# Altium footprint library con-phoenix-508.PCBLIB: 90 footprints (part 4 of 6)
Each footprint in its own frame and in the unit in brackets; x right, y up, seen from the top. Pads: shape width x height; smd on the part's side, far side on the other; paste and mask are expansions set on the pad; w line width, h text height; cw(c..) or ccw(c..) is an arc to the next point about the centre after c.
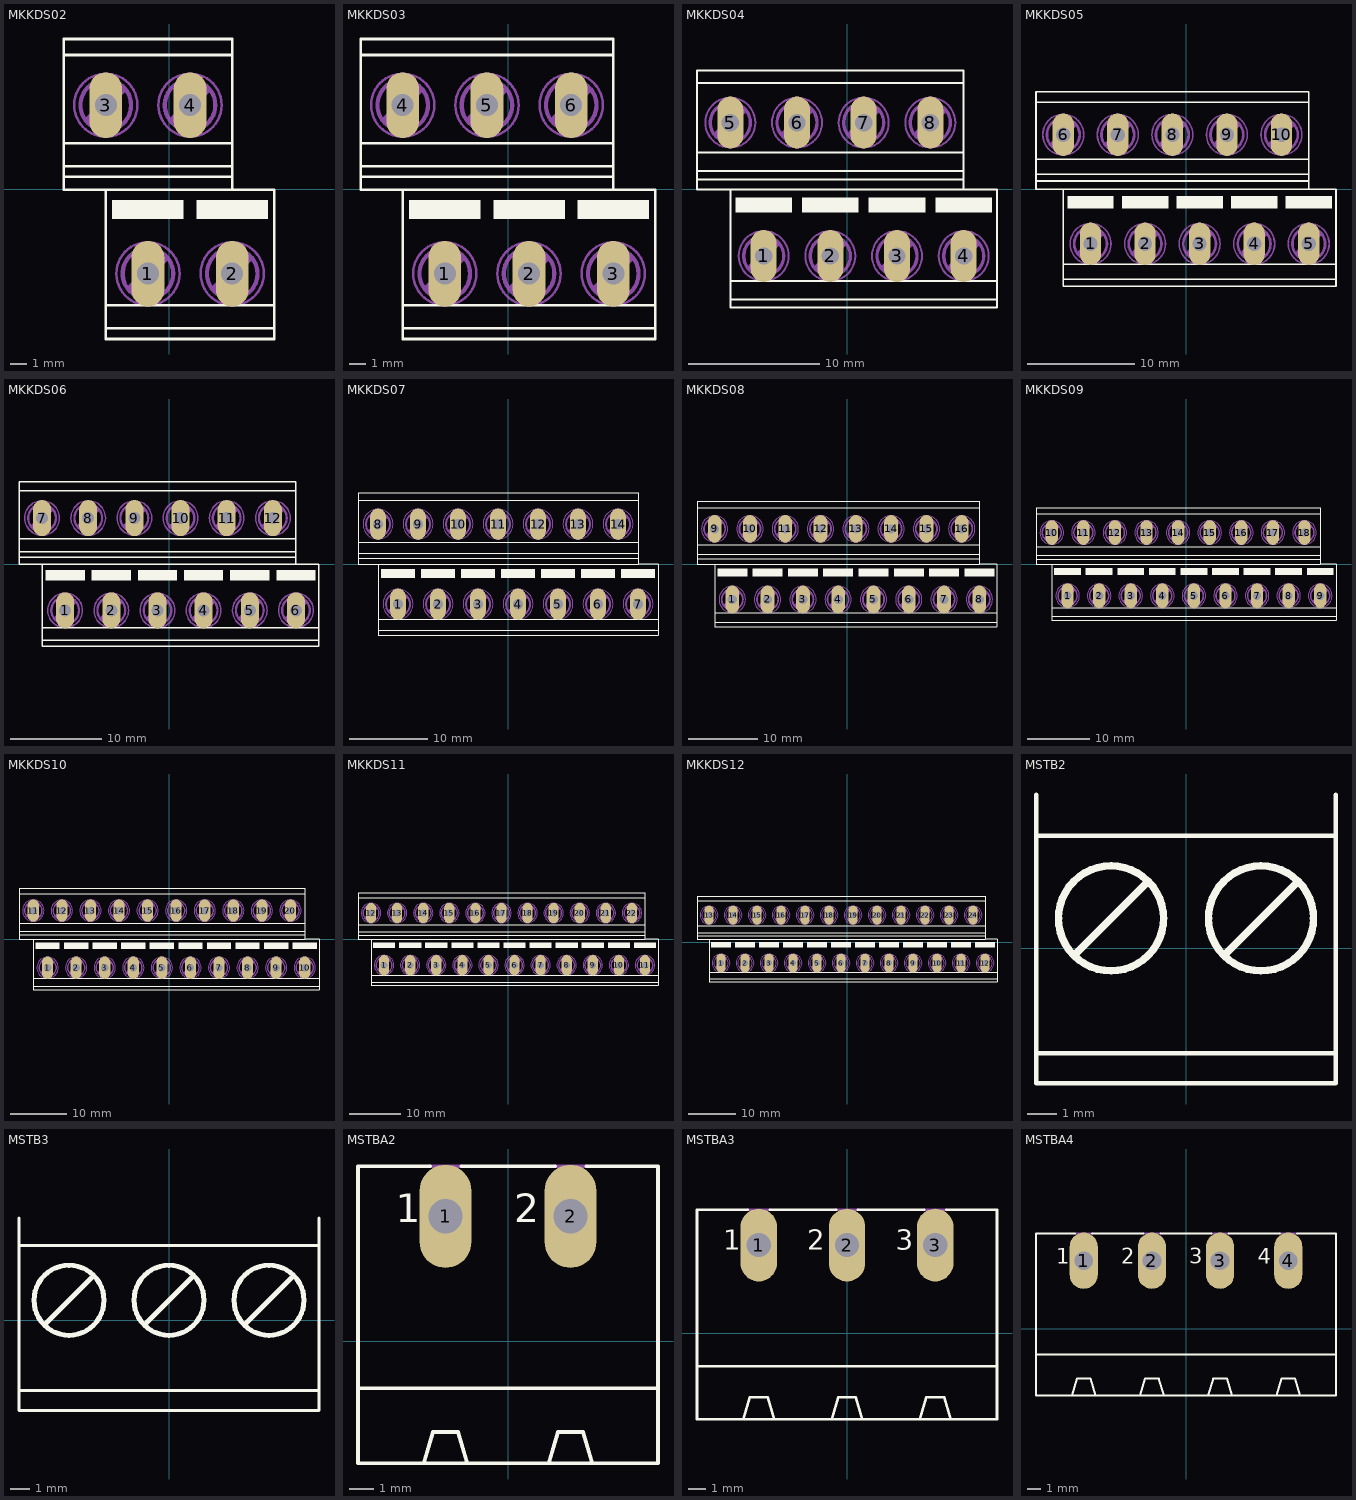
[diagram p3: the footprints below, top view; thin cyan lines are the x and y axes]

## MKKDS02 [mil]
pads (4):
  oval 78x156 hole 52: 1(-50,-200) 2(150,-200) 3(-150,200) 4(50,200)
Top Overlay:
  rectangle: 65,-70 235,-25
  rectangle: -135,-70 35,-25
  lines w6: -250,30 150,30 ; -250,30 -250,-0.63 -150,-0.63 ; -250,30 -250,55 ; -250,55 150,55 ; -250,55 -250,110 ; -250,110 150,110 ; -250,110 -250,319 ; -250,319 -250,357 150,357 150,319 ; -250,319 150,319 ; -150,-330.2 -150,-355.2 250,-355.2 250,-330.2 ; -150,-330.2 250,-330.2 ; -150,-330.2 -150,-275.2 ; -150,-275.2 250,-275.2 ; -150,-275.2 -150,-0.63 ; -150,-0.63 150,-0.63 ; 150,-0.63 250,-0.63 250,-275.2 ; 150,-0.63 150,30 ; 150,30 150,55 ; 150,55 150,110 ; 150,110 150,319 ; 250,-330.2 250,-275.2
Courtyard Bottom:
  circle w10: c-50,-200 r60
  circle w6: c-50,-200 r75
  circle w10: c150,-200 r60
  circle w6: c150,-200 r75
  circle w10: c-150,200 r60
  circle w6: c-150,200 r75
  circle w10: c50,200 r60
  circle w6: c50,200 r75
  lines w24: -187,164 -114,237 ; -87,-236 -14,-163 ; 13,164 86,237 ; 113,-236 186,-163
  text "1" at 0,-130 h62
  text "2" at 195,-130 h62
  text "3" at -115,276 h62
  text "4" at 82,276 h62

## MKKDS03 [mil]
pads (6):
  oval 78x156 hole 52: 1(-150,-200) 2(50,-200) 3(250,-200) 4(-250,200) 5(-50,200) 6(150,200)
Top Overlay:
  rectangle: -35,-70 135,-25
  rectangle: -235,-70 -65,-25
  rectangle: 165,-70 335,-25
  lines w6: -350,30 250,30 ; -350,30 -350,-0.63 -250,-0.63 ; -350,30 -350,55 ; -350,55 250,55 ; -350,55 -350,110 ; -350,110 250,110 ; -350,110 -350,319 ; -350,319 -350,357 250,357 250,319 ; -350,319 250,319 ; -250,-330.2 -250,-355.2 350,-355.2 350,-330.2 ; -250,-330.2 350,-330.2 ; -250,-330.2 -250,-275.2 ; -250,-275.2 350,-275.2 ; -250,-275.2 -250,-0.63 ; -250,-0.63 250,-0.63 ; 250,-0.63 350,-0.63 350,-275.2 ; 250,-0.63 250,30 ; 250,30 250,55 ; 250,55 250,110 ; 250,110 250,319 ; 350,-330.2 350,-275.2
Courtyard Bottom:
  circle w10: c-150,-200 r60
  circle w6: c-150,-200 r75
  circle w10: c50,-200 r60
  circle w6: c50,-200 r75
  circle w10: c-250,200 r60
  circle w6: c-250,200 r75
  circle w10: c-50,200 r60
  circle w6: c-50,200 r75
  circle w6: c150,200 r75
  circle w10: c150,200 r60
  circle w6: c250,-200 r75
  circle w10: c250,-200 r60
  lines w24: -287,164 -214,237 ; -187,-236 -114,-163 ; -87,164 -14,237 ; 13,-236 86,-163 ; 113,164 186,237 ; 213,-236 286,-163
  text "1" at -100,-130 h62
  text "2" at 95,-130 h62
  text "4" at -215,276 h62
  text "5" at -18.94,276 h62
  text "3" at 295,-130 h62
  text "6" at 182,276 h62

## MKKDS04 [mil]
pads (8):
  oval 78x156 hole 52: 1(-250,-200) 2(-50,-200) 3(150,-200) 4(350,-200) 5(-350,200) 6(-150,200) 7(50,200) 8(250,200)
Top Overlay:
  rectangle: -135,-70 35,-25
  rectangle: -335,-70 -165,-25
  rectangle: 265,-70 435,-25
  rectangle: 65,-70 235,-25
  lines w6: -450,30 350,30 ; -450,30 -450,-0.63 -350,-0.63 ; -450,30 -450,55 ; -450,55 350,55 ; -450,55 -450,110 ; -450,110 350,110 ; -450,110 -450,319 ; -450,319 -450,357 350,357 350,319 ; -450,319 350,319 ; -350,-330.2 -350,-355.2 450,-355.2 450,-330.2 ; -350,-330.2 450,-330.2 ; -350,-330.2 -350,-275.2 ; -350,-275.2 450,-275.2 ; -350,-275.2 -350,-0.63 ; -350,-0.63 350,-0.63 ; 350,-0.63 450,-0.63 450,-275.2 ; 350,-0.63 350,30 ; 350,30 350,55 ; 350,55 350,110 ; 350,110 350,319 ; 450,-330.2 450,-275.2
Courtyard Bottom:
  circle w10: c-250,-200 r60
  circle w6: c-250,-200 r75
  circle w10: c-50,-200 r60
  circle w6: c-50,-200 r75
  circle w10: c-350,200 r60
  circle w6: c-350,200 r75
  circle w10: c-150,200 r60
  circle w6: c-150,200 r75
  circle w6: c250,200 r75
  circle w10: c250,200 r60
  circle w6: c350,-200 r75
  circle w10: c350,-200 r60
  circle w10: c150,-200 r60
  circle w6: c150,-200 r75
  circle w10: c50,200 r60
  circle w6: c50,200 r75
  lines w24: -387,164 -314,237 ; -287,-236 -214,-163 ; -187,164 -114,237 ; -87,-236 -14,-163 ; 13,164 86,237 ; 113,-236 186,-163 ; 213,164 286,237 ; 313,-236 386,-163
  text "1" at -200,-130 h62
  text "2" at -5,-130 h62
  text "5" at -315,276 h62
  text "6" at -118.94,276 h62
  text "4" at 395,-130 h62
  text "8" at 282,276 h62
  text "3" at 195,-130 h62
  text "7" at 82,276 h62

## MKKDS05 [mil]
pads (10):
  oval 78x156 hole 52: 1(-350,-200) 2(-150,-200) 3(50,-200) 4(250,-200) 5(450,-200) 6(-450,200) 7(-250,200) 8(-50,200) 9(150,200) 10(350,200)
Top Overlay:
  rectangle: -235,-70 -65,-25
  rectangle: -435,-70 -265,-25
  rectangle: 365,-70 535,-25
  rectangle: -35,-70 135,-25
  rectangle: 165,-70 335,-25
  lines w6: -550,30 450,30 ; -550,30 -550,-0.63 -450,-0.63 ; -550,30 -550,55 ; -550,55 450,55 ; -550,55 -550,110 ; -550,110 450,110 ; -550,110 -550,319 ; -550,319 -550,357 450,357 450,319 ; -550,319 450,319 ; -450,-330.2 -450,-355.2 550,-355.2 550,-330.2 ; -450,-330.2 550,-330.2 ; -450,-330.2 -450,-275.2 ; -450,-275.2 550,-275.2 ; -450,-275.2 -450,-0.63 ; -450,-0.63 450,-0.63 ; 450,-0.63 550,-0.63 550,-275.2 ; 450,-0.63 450,30 ; 450,30 450,55 ; 450,55 450,110 ; 450,110 450,319 ; 550,-330.2 550,-275.2
Courtyard Bottom:
  circle w10: c-350,-200 r60
  circle w6: c-350,-200 r75
  circle w10: c-150,-200 r60
  circle w6: c-150,-200 r75
  circle w10: c-450,200 r60
  circle w6: c-450,200 r75
  circle w10: c-250,200 r60
  circle w6: c-250,200 r75
  circle w6: c350,200 r75
  circle w10: c350,200 r60
  circle w6: c450,-200 r75
  circle w10: c450,-200 r60
  circle w10: c50,-200 r60
  circle w6: c50,-200 r75
  circle w10: c-50,200 r60
  circle w6: c-50,200 r75
  circle w10: c250,-200 r60
  circle w6: c250,-200 r75
  circle w10: c150,200 r60
  circle w6: c150,200 r75
  lines w24: -487,164 -414,237 ; -387,-236 -314,-163 ; -287,164 -214,237 ; -187,-236 -114,-163 ; -87,164 -14,237 ; 13,-236 86,-163 ; 113,164 186,237 ; 213,-236 286,-163 ; 313,164 386,237 ; 413,-236 486,-163
  text "1" at -300,-130 h62
  text "2" at -105,-130 h62
  text "6" at -415,276 h62
  text "7" at -218.94,276 h62
  text "5" at 495,-130 h62
  text "10" at 382,276 h62
  text "3" at 95,-130 h62
  text "8" at -18.94,276 h62
  text "4" at 295,-130 h62
  text "9" at 182,276 h62

## MKKDS06 [mil]
pads (12):
  oval 78x156 hole 52: 1(-450,-200) 2(-250,-200) 3(-50,-200) 4(150,-200) 5(350,-200) 6(550,-200) 7(-550,200) 8(-350,200) 9(-150,200) 10(50,200) 11(250,200) 12(450,200)
Top Overlay:
  rectangle: -335,-70 -165,-25
  rectangle: -535,-70 -365,-25
  rectangle: 465,-70 635,-25
  rectangle: -135,-70 35,-25
  rectangle: 65,-70 235,-25
  rectangle: 265,-70 435,-25
  lines w6: -650,30 550,30 ; -650,30 -650,-0.63 -550,-0.63 ; -650,30 -650,55 ; -650,55 550,55 ; -650,55 -650,110 ; -650,110 550,110 ; -650,110 -650,319 ; -650,319 -650,357 550,357 550,319 ; -650,319 550,319 ; -550,-330.2 -550,-355.2 650,-355.2 650,-330.2 ; -550,-330.2 650,-330.2 ; -550,-330.2 -550,-275.2 ; -550,-275.2 650,-275.2 ; -550,-275.2 -550,-0.63 ; -550,-0.63 550,-0.63 ; 550,-0.63 650,-0.63 650,-275.2 ; 550,-0.63 550,30 ; 550,30 550,55 ; 550,55 550,110 ; 550,110 550,319 ; 650,-330.2 650,-275.2
Courtyard Bottom:
  circle w10: c-450,-200 r60
  circle w6: c-450,-200 r75
  circle w10: c-250,-200 r60
  circle w6: c-250,-200 r75
  circle w10: c-550,200 r60
  circle w6: c-550,200 r75
  circle w10: c-350,200 r60
  circle w6: c-350,200 r75
  circle w6: c450,200 r75
  circle w10: c450,200 r60
  circle w6: c550,-200 r75
  circle w10: c550,-200 r60
  circle w10: c-50,-200 r60
  circle w6: c-50,-200 r75
  circle w10: c-150,200 r60
  circle w6: c-150,200 r75
  circle w10: c150,-200 r60
  circle w6: c150,-200 r75
  circle w10: c50,200 r60
  circle w6: c50,200 r75
  circle w10: c350,-200 r60
  circle w6: c350,-200 r75
  circle w10: c250,200 r60
  circle w6: c250,200 r75
  lines w24: -587,164 -514,237 ; -487,-236 -414,-163 ; -387,164 -314,237 ; -287,-236 -214,-163 ; -187,164 -114,237 ; -87,-236 -14,-163 ; 13,164 86,237 ; 113,-236 186,-163 ; 213,164 286,237 ; 313,-236 386,-163 ; 413,164 486,237 ; 513,-236 586,-163
  text "1" at -400,-130 h62
  text "2" at -205,-130 h62
  text "7" at -515,276 h62
  text "8" at -318.94,276 h62
  text "6" at 595,-130 h62
  text "12" at 482,276 h62
  text "3" at -5,-130 h62
  text "9" at -118.94,276 h62
  text "4" at 195,-130 h62
  text "10" at 82,276 h62
  text "5" at 395,-130 h62
  text "11" at 282,276 h62

## MKKDS07 [mil]
pads (14):
  oval 78x156 hole 52: 1(-550,-200) 2(-350,-200) 3(-150,-200) 4(50,-200) 5(250,-200) 6(450,-200) 7(650,-200) 8(-650,200) 9(-450,200) 10(-250,200) 11(-50,200) 12(150,200) 13(350,200) 14(550,200)
Top Overlay:
  rectangle: -435,-70 -265,-25
  rectangle: -635,-70 -465,-25
  rectangle: 565,-70 735,-25
  rectangle: -235,-70 -65,-25
  rectangle: -35,-70 135,-25
  rectangle: 165,-70 335,-25
  rectangle: 365,-70 535,-25
  lines w6: -750,30 650,30 ; -750,30 -750,-0.63 -650,-0.63 ; -750,30 -750,55 ; -750,55 650,55 ; -750,55 -750,110 ; -750,110 650,110 ; -750,110 -750,319 ; -750,319 -750,357 650,357 650,319 ; -750,319 650,319 ; -650,-330.2 -650,-355.2 750,-355.2 750,-330.2 ; -650,-330.2 750,-330.2 ; -650,-330.2 -650,-275.2 ; -650,-275.2 750,-275.2 ; -650,-275.2 -650,-0.63 ; -650,-0.63 650,-0.63 ; 650,-0.63 750,-0.63 750,-275.2 ; 650,-0.63 650,30 ; 650,30 650,55 ; 650,55 650,110 ; 650,110 650,319 ; 750,-330.2 750,-275.2
Courtyard Bottom:
  circle w10: c-550,-200 r60
  circle w6: c-550,-200 r75
  circle w10: c-350,-200 r60
  circle w6: c-350,-200 r75
  circle w10: c-650,200 r60
  circle w6: c-650,200 r75
  circle w10: c-450,200 r60
  circle w6: c-450,200 r75
  circle w6: c550,200 r75
  circle w10: c550,200 r60
  circle w6: c650,-200 r75
  circle w10: c650,-200 r60
  circle w10: c-150,-200 r60
  circle w6: c-150,-200 r75
  circle w10: c-250,200 r60
  circle w6: c-250,200 r75
  circle w10: c50,-200 r60
  circle w6: c50,-200 r75
  circle w10: c-50,200 r60
  circle w6: c-50,200 r75
  circle w10: c250,-200 r60
  circle w6: c250,-200 r75
  circle w10: c150,200 r60
  circle w6: c150,200 r75
  circle w10: c450,-200 r60
  circle w6: c450,-200 r75
  circle w10: c350,200 r60
  circle w6: c350,200 r75
  lines w24: -687,164 -614,237 ; -587,-236 -514,-163 ; -487,164 -414,237 ; -387,-236 -314,-163 ; -287,164 -214,237 ; -187,-236 -114,-163 ; -87,164 -14,237 ; 13,-236 86,-163 ; 113,164 186,237 ; 213,-236 286,-163 ; 313,164 386,237 ; 413,-236 486,-163 ; 513,164 586,237 ; 613,-236 686,-163
  text "1" at -500,-130 h62
  text "2" at -305,-130 h62
  text "8" at -615,276 h62
  text "9" at -418.94,276 h62
  text "7" at 695,-130 h62
  text "14" at 582,276 h62
  text "3" at -105,-130 h62
  text "10" at -218.94,276 h62
  text "4" at 95,-130 h62
  text "11" at -18.94,276 h62
  text "5" at 295,-130 h62
  text "12" at 182,276 h62
  text "6" at 495,-130 h62
  text "13" at 382,276 h62

## MKKDS08 [mil]
pads (16):
  oval 78x156 hole 52: 1(-650,-200) 2(-450,-200) 3(-250,-200) 4(-50,-200) 5(150,-200) 6(350,-200) 7(550,-200) 8(750,-200) 9(-750,200) 10(-550,200) 11(-350,200) 12(-150,200) 13(50,200) 14(250,200) 15(450,200) 16(650,200)
Top Overlay:
  rectangle: -535,-70 -365,-25
  rectangle: -735,-70 -565,-25
  rectangle: 665,-70 835,-25
  rectangle: -335,-70 -165,-25
  rectangle: -135,-70 35,-25
  rectangle: 65,-70 235,-25
  rectangle: 265,-70 435,-25
  rectangle: 465,-70 635,-25
  lines w6: -850,30 750,30 ; -850,30 -850,-0.63 -750,-0.63 ; -850,30 -850,55 ; -850,55 750,55 ; -850,55 -850,110 ; -850,110 750,110 ; -850,110 -850,319 ; -850,319 -850,357 750,357 750,319 ; -850,319 750,319 ; -750,-330.2 -750,-355.2 850,-355.2 850,-330.2 ; -750,-330.2 850,-330.2 ; -750,-330.2 -750,-275.2 ; -750,-275.2 850,-275.2 ; -750,-275.2 -750,-0.63 ; -750,-0.63 750,-0.63 ; 750,-0.63 850,-0.63 850,-275.2 ; 750,-0.63 750,30 ; 750,30 750,55 ; 750,55 750,110 ; 750,110 750,319 ; 850,-330.2 850,-275.2
Courtyard Bottom:
  circle w10: c-650,-200 r60
  circle w6: c-650,-200 r75
  circle w10: c-450,-200 r60
  circle w6: c-450,-200 r75
  circle w10: c-750,200 r60
  circle w6: c-750,200 r75
  circle w10: c-550,200 r60
  circle w6: c-550,200 r75
  circle w6: c650,200 r75
  circle w10: c650,200 r60
  circle w6: c750,-200 r75
  circle w10: c750,-200 r60
  circle w10: c-250,-200 r60
  circle w6: c-250,-200 r75
  circle w10: c-350,200 r60
  circle w6: c-350,200 r75
  circle w10: c-50,-200 r60
  circle w6: c-50,-200 r75
  circle w10: c-150,200 r60
  circle w6: c-150,200 r75
  circle w10: c150,-200 r60
  circle w6: c150,-200 r75
  circle w10: c50,200 r60
  circle w6: c50,200 r75
  circle w10: c350,-200 r60
  circle w6: c350,-200 r75
  circle w10: c250,200 r60
  circle w6: c250,200 r75
  circle w10: c550,-200 r60
  circle w6: c550,-200 r75
  circle w10: c450,200 r60
  circle w6: c450,200 r75
  lines w24: -787,164 -714,237 ; -687,-236 -614,-163 ; -587,164 -514,237 ; -487,-236 -414,-163 ; -387,164 -314,237 ; -287,-236 -214,-163 ; -187,164 -114,237 ; -87,-236 -14,-163 ; 13,164 86,237 ; 113,-236 186,-163 ; 213,164 286,237 ; 313,-236 386,-163 ; 413,164 486,237 ; 513,-236 586,-163 ; 613,164 686,237 ; 713,-236 786,-163
  text "1" at -600,-130 h62
  text "2" at -405,-130 h62
  text "9" at -715,276 h62
  text "10" at -518.94,276 h62
  text "8" at 795,-130 h62
  text "16" at 682,276 h62
  text "3" at -205,-130 h62
  text "11" at -318.94,276 h62
  text "4" at -5,-130 h62
  text "12" at -118.94,276 h62
  text "5" at 195,-130 h62
  text "13" at 82,276 h62
  text "6" at 395,-130 h62
  text "14" at 282,276 h62
  text "7" at 595,-130 h62
  text "15" at 482,276 h62

## MKKDS09 [mil]
pads (18):
  oval 78x156 hole 52: 1(-750,-200) 2(-550,-200) 3(-350,-200) 4(-150,-200) 5(50,-200) 6(250,-200) 7(450,-200) 8(650,-200) 9(850,-200) 10(-850,200) 11(-650,200) 12(-450,200) 13(-250,200) 14(-50,200) 15(150,200) 16(350,200) 17(550,200) 18(750,200)
Top Overlay:
  rectangle: -635,-70 -465,-25
  rectangle: -835,-70 -665,-25
  rectangle: 765,-70 935,-25
  rectangle: -435,-70 -265,-25
  rectangle: -235,-70 -65,-25
  rectangle: -35,-70 135,-25
  rectangle: 165,-70 335,-25
  rectangle: 365,-70 535,-25
  rectangle: 565,-70 735,-25
  lines w6: -950,30 850,30 ; -950,30 -950,-0.63 -850,-0.63 ; -950,30 -950,55 ; -950,55 850,55 ; -950,55 -950,110 ; -950,110 850,110 ; -950,110 -950,319 ; -950,319 -950,357 850,357 850,319 ; -950,319 850,319 ; -850,-330.2 -850,-355.2 950,-355.2 950,-330.2 ; -850,-330.2 950,-330.2 ; -850,-330.2 -850,-275.2 ; -850,-275.2 950,-275.2 ; -850,-275.2 -850,-0.63 ; -850,-0.63 850,-0.63 ; 850,-0.63 950,-0.63 950,-275.2 ; 850,-0.63 850,30 ; 850,30 850,55 ; 850,55 850,110 ; 850,110 850,319 ; 950,-330.2 950,-275.2
Courtyard Bottom:
  circle w10: c-750,-200 r60
  circle w6: c-750,-200 r75
  circle w10: c-550,-200 r60
  circle w6: c-550,-200 r75
  circle w10: c-850,200 r60
  circle w6: c-850,200 r75
  circle w10: c-650,200 r60
  circle w6: c-650,200 r75
  circle w6: c750,200 r75
  circle w10: c750,200 r60
  circle w6: c850,-200 r75
  circle w10: c850,-200 r60
  circle w10: c-350,-200 r60
  circle w6: c-350,-200 r75
  circle w10: c-450,200 r60
  circle w6: c-450,200 r75
  circle w10: c-150,-200 r60
  circle w6: c-150,-200 r75
  circle w10: c-250,200 r60
  circle w6: c-250,200 r75
  circle w10: c50,-200 r60
  circle w6: c50,-200 r75
  circle w10: c-50,200 r60
  circle w6: c-50,200 r75
  circle w10: c250,-200 r60
  circle w6: c250,-200 r75
  circle w10: c150,200 r60
  circle w6: c150,200 r75
  circle w10: c450,-200 r60
  circle w6: c450,-200 r75
  circle w10: c350,200 r60
  circle w6: c350,200 r75
  circle w10: c650,-200 r60
  circle w6: c650,-200 r75
  circle w10: c550,200 r60
  circle w6: c550,200 r75
  lines w24: -887,164 -814,237 ; -787,-236 -714,-163 ; -687,164 -614,237 ; -587,-236 -514,-163 ; -487,164 -414,237 ; -387,-236 -314,-163 ; -287,164 -214,237 ; -187,-236 -114,-163 ; -87,164 -14,237 ; 13,-236 86,-163 ; 113,164 186,237 ; 213,-236 286,-163 ; 313,164 386,237 ; 413,-236 486,-163 ; 513,164 586,237 ; 613,-236 686,-163 ; 713,164 786,237 ; 813,-236 886,-163
  text "1" at -700,-130 h62
  text "2" at -505,-130 h62
  text "10" at -815,276 h62
  text "11" at -618.94,276 h62
  text "9" at 895,-130 h62
  text "18" at 782,276 h62
  text "3" at -305,-130 h62
  text "12" at -418.94,276 h62
  text "4" at -105,-130 h62
  text "13" at -218.94,276 h62
  text "5" at 95,-130 h62
  text "14" at -18.94,276 h62
  text "6" at 295,-130 h62
  text "15" at 182,276 h62
  text "7" at 495,-130 h62
  text "16" at 382,276 h62
  text "8" at 695,-130 h62
  text "17" at 582,276 h62

## MKKDS10 [mil]
pads (20):
  oval 78x156 hole 52: 1(-850,-200) 2(-650,-200) 3(-450,-200) 4(-250,-200) 5(-50,-200) 6(150,-200) 7(350,-200) 8(550,-200) 9(750,-200) 10(950,-200) 11(-950,200) 12(-750,200) 13(-550,200) 14(-350,200) 15(-150,200) 16(50,200) 17(250,200) 18(450,200) 19(650,200) 20(850,200)
Top Overlay:
  rectangle: -735,-70 -565,-25
  rectangle: -935,-70 -765,-25
  rectangle: 865,-70 1035,-25
  rectangle: -535,-70 -365,-25
  rectangle: -335,-70 -165,-25
  rectangle: -135,-70 35,-25
  rectangle: 65,-70 235,-25
  rectangle: 265,-70 435,-25
  rectangle: 465,-70 635,-25
  rectangle: 665,-70 835,-25
  lines w6: -1050,30 950,30 ; -1050,30 -1050,-0.63 -950,-0.63 ; -1050,30 -1050,55 ; -1050,55 950,55 ; -1050,55 -1050,110 ; -1050,110 950,110 ; -1050,110 -1050,319 ; -1050,319 -1050,357 950,357 950,319 ; -1050,319 950,319 ; -950,-330.2 -950,-355.2 1050,-355.2 1050,-330.2 ; -950,-330.2 1050,-330.2 ; -950,-330.2 -950,-275.2 ; -950,-275.2 1050,-275.2 ; -950,-275.2 -950,-0.63 ; -950,-0.63 950,-0.63 ; 950,-0.63 1050,-0.63 1050,-275.2 ; 950,-0.63 950,30 ; 950,30 950,55 ; 950,55 950,110 ; 950,110 950,319 ; 1050,-330.2 1050,-275.2
Courtyard Bottom:
  circle w10: c-850,-200 r60
  circle w6: c-850,-200 r75
  circle w10: c-650,-200 r60
  circle w6: c-650,-200 r75
  circle w10: c-950,200 r60
  circle w6: c-950,200 r75
  circle w10: c-750,200 r60
  circle w6: c-750,200 r75
  circle w6: c850,200 r75
  circle w10: c850,200 r60
  circle w6: c950,-200 r75
  circle w10: c950,-200 r60
  circle w10: c-450,-200 r60
  circle w6: c-450,-200 r75
  circle w10: c-550,200 r60
  circle w6: c-550,200 r75
  circle w10: c-250,-200 r60
  circle w6: c-250,-200 r75
  circle w10: c-350,200 r60
  circle w6: c-350,200 r75
  circle w10: c-50,-200 r60
  circle w6: c-50,-200 r75
  circle w10: c-150,200 r60
  circle w6: c-150,200 r75
  circle w10: c150,-200 r60
  circle w6: c150,-200 r75
  circle w10: c50,200 r60
  circle w6: c50,200 r75
  circle w10: c350,-200 r60
  circle w6: c350,-200 r75
  circle w10: c250,200 r60
  circle w6: c250,200 r75
  circle w10: c550,-200 r60
  circle w6: c550,-200 r75
  circle w10: c450,200 r60
  circle w6: c450,200 r75
  circle w10: c750,-200 r60
  circle w6: c750,-200 r75
  circle w10: c650,200 r60
  circle w6: c650,200 r75
  lines w24: -987,164 -914,237 ; -887,-236 -814,-163 ; -787,164 -714,237 ; -687,-236 -614,-163 ; -587,164 -514,237 ; -487,-236 -414,-163 ; -387,164 -314,237 ; -287,-236 -214,-163 ; -187,164 -114,237 ; -87,-236 -14,-163 ; 13,164 86,237 ; 113,-236 186,-163 ; 213,164 286,237 ; 313,-236 386,-163 ; 413,164 486,237 ; 513,-236 586,-163 ; 613,164 686,237 ; 713,-236 786,-163 ; 813,164 886,237 ; 913,-236 986,-163
  text "1" at -800,-130 h62
  text "2" at -605,-130 h62
  text "11" at -915,276 h62
  text "12" at -718.94,276 h62
  text "10" at 995,-130 h62
  text "20" at 882,276 h62
  text "3" at -405,-130 h62
  text "13" at -518.94,276 h62
  text "4" at -205,-130 h62
  text "14" at -318.94,276 h62
  text "5" at -5,-130 h62
  text "15" at -118.94,276 h62
  text "6" at 195,-130 h62
  text "16" at 82,276 h62
  text "7" at 395,-130 h62
  text "17" at 282,276 h62
  text "8" at 595,-130 h62
  text "18" at 482,276 h62
  text "9" at 795,-130 h62
  text "19" at 682,276 h62

## MKKDS11 [mil]
pads (22):
  oval 78x156 hole 52: 1(-950,-200) 2(-750,-200) 3(-550,-200) 4(-350,-200) 5(-150,-200) 6(50,-200) 7(250,-200) 8(450,-200) 9(650,-200) 10(850,-200) 11(1050,-200) 12(-1050,200) 13(-850,200) 14(-650,200) 15(-450,200) 16(-250,200) 17(-50,200) 18(150,200) 19(350,200) 20(550,200) 21(750,200) 22(950,200)
Top Overlay:
  rectangle: -835,-70 -665,-25
  rectangle: -1035,-70 -865,-25
  rectangle: 965,-70 1135,-25
  rectangle: -635,-70 -465,-25
  rectangle: -435,-70 -265,-25
  rectangle: -235,-70 -65,-25
  rectangle: -35,-70 135,-25
  rectangle: 165,-70 335,-25
  rectangle: 365,-70 535,-25
  rectangle: 565,-70 735,-25
  rectangle: 765,-70 935,-25
  lines w6: -1150,30 1050,30 ; -1150,30 -1150,-0.63 -1050,-0.63 ; -1150,30 -1150,55 ; -1150,55 1050,55 ; -1150,55 -1150,110 ; -1150,110 1050,110 ; -1150,110 -1150,319 ; -1150,319 -1150,357 1050,357 1050,319 ; -1150,319 1050,319 ; -1050,-330.2 -1050,-355.2 1150,-355.2 1150,-330.2 ; -1050,-330.2 1150,-330.2 ; -1050,-330.2 -1050,-275.2 ; -1050,-275.2 1150,-275.2 ; -1050,-275.2 -1050,-0.63 ; -1050,-0.63 1050,-0.63 ; 1050,-0.63 1150,-0.63 1150,-275.2 ; 1050,-0.63 1050,30 ; 1050,30 1050,55 ; 1050,55 1050,110 ; 1050,110 1050,319 ; 1150,-330.2 1150,-275.2
Courtyard Bottom:
  circle w10: c-950,-200 r60
  circle w6: c-950,-200 r75
  circle w10: c-750,-200 r60
  circle w6: c-750,-200 r75
  circle w10: c-1050,200 r60
  circle w6: c-1050,200 r75
  circle w10: c-850,200 r60
  circle w6: c-850,200 r75
  circle w6: c950,200 r75
  circle w10: c950,200 r60
  circle w6: c1050,-200 r75
  circle w10: c1050,-200 r60
  circle w10: c-550,-200 r60
  circle w6: c-550,-200 r75
  circle w10: c-650,200 r60
  circle w6: c-650,200 r75
  circle w10: c-350,-200 r60
  circle w6: c-350,-200 r75
  circle w10: c-450,200 r60
  circle w6: c-450,200 r75
  circle w10: c-150,-200 r60
  circle w6: c-150,-200 r75
  circle w10: c-250,200 r60
  circle w6: c-250,200 r75
  circle w10: c50,-200 r60
  circle w6: c50,-200 r75
  circle w10: c-50,200 r60
  circle w6: c-50,200 r75
  circle w10: c250,-200 r60
  circle w6: c250,-200 r75
  circle w10: c150,200 r60
  circle w6: c150,200 r75
  circle w10: c450,-200 r60
  circle w6: c450,-200 r75
  circle w10: c350,200 r60
  circle w6: c350,200 r75
  circle w10: c650,-200 r60
  circle w6: c650,-200 r75
  circle w10: c550,200 r60
  circle w6: c550,200 r75
  circle w10: c850,-200 r60
  circle w6: c850,-200 r75
  circle w10: c750,200 r60
  circle w6: c750,200 r75
  lines w24: -1087,164 -1014,237 ; -987,-236 -914,-163 ; -887,164 -814,237 ; -787,-236 -714,-163 ; -687,164 -614,237 ; -587,-236 -514,-163 ; -487,164 -414,237 ; -387,-236 -314,-163 ; -287,164 -214,237 ; -187,-236 -114,-163 ; -87,164 -14,237 ; 13,-236 86,-163 ; 113,164 186,237 ; 213,-236 286,-163 ; 313,164 386,237 ; 413,-236 486,-163 ; 513,164 586,237 ; 613,-236 686,-163 ; 713,164 786,237 ; 813,-236 886,-163 ; 913,164 986,237 ; 1013,-236 1086,-163
  text "1" at -900,-130 h62
  text "2" at -705,-130 h62
  text "12" at -1015,276 h62
  text "13" at -818.94,276 h62
  text "11" at 1095,-130 h62
  text "22" at 982,276 h62
  text "3" at -505,-130 h62
  text "14" at -618.94,276 h62
  text "4" at -305,-130 h62
  text "15" at -418.94,276 h62
  text "5" at -105,-130 h62
  text "16" at -218.94,276 h62
  text "6" at 95,-130 h62
  text "17" at -18.94,276 h62
  text "7" at 295,-130 h62
  text "18" at 182,276 h62
  text "8" at 495,-130 h62
  text "19" at 382,276 h62
  text "9" at 695,-130 h62
  text "20" at 582,276 h62
  text "10" at 895,-130 h62
  text "21" at 782,276 h62

## MKKDS12 [mil]
pads (24):
  oval 78x156 hole 52: 1(-1050,-175) 2(-850,-175) 3(-650,-175) 4(-450,-175) 5(-250,-175) 6(-50,-175) 7(150,-175) 8(350,-175) 9(550,-175) 10(750,-175) 11(950,-175) 12(1150,-175) 13(-1150,225) 14(-950,225) 15(-750,225) 16(-550,225) 17(-350,225) 18(-150,225) 19(50,225) 20(250,225) 21(450,225) 22(650,225) 23(850,225) 24(1050,225)
Top Overlay:
  rectangle: -935,-45 -765,0
  rectangle: -1135,-45 -965,0
  rectangle: 1065,-45 1235,0
  rectangle: -735,-45 -565,0
  rectangle: -535,-45 -365,0
  rectangle: -335,-45 -165,0
  rectangle: -135,-45 35,0
  rectangle: 65,-45 235,0
  rectangle: 265,-45 435,0
  rectangle: 465,-45 635,0
  rectangle: 665,-45 835,0
  rectangle: 865,-45 1035,0
  lines w6: -1250,55 1150,55 ; -1250,55 -1250,25 -1150,25 ; -1250,55 -1250,80 ; -1250,80 1150,80 ; -1250,80 -1250,135 ; -1250,135 1150,135 ; -1250,135 -1250,344 ; -1250,344 -1250,382 1150,382 1150,344 ; -1250,344 1150,344 ; -1150,-305.2 -1150,-330.2 1250,-330.2 1250,-305.2 ; -1150,-305.2 1250,-305.2 ; -1150,-305.2 -1150,-250.2 ; -1150,-250.2 1250,-250.2 ; -1150,-250.2 -1150,25 ; -1150,25 1150,25 ; 1150,25 1250,25 1250,-250.2 ; 1150,25 1150,55 ; 1150,55 1150,80 ; 1150,80 1150,135 ; 1150,135 1150,344 ; 1250,-305.2 1250,-250.2
Courtyard Bottom:
  circle w10: c-1050,-175 r60
  circle w6: c-1050,-175 r75
  circle w10: c-850,-175 r60
  circle w6: c-850,-175 r75
  circle w10: c-1150,225 r60
  circle w6: c-1150,225 r75
  circle w10: c-950,225 r60
  circle w6: c-950,225 r75
  circle w6: c1050,225 r75
  circle w10: c1050,225 r60
  circle w6: c1150,-175 r75
  circle w10: c1150,-175 r60
  circle w10: c-650,-175 r60
  circle w6: c-650,-175 r75
  circle w10: c-750,225 r60
  circle w6: c-750,225 r75
  circle w10: c-450,-175 r60
  circle w6: c-450,-175 r75
  circle w10: c-550,225 r60
  circle w6: c-550,225 r75
  circle w10: c-250,-175 r60
  circle w6: c-250,-175 r75
  circle w10: c-350,225 r60
  circle w6: c-350,225 r75
  circle w10: c-50,-175 r60
  circle w6: c-50,-175 r75
  circle w10: c-150,225 r60
  circle w6: c-150,225 r75
  circle w10: c150,-175 r60
  circle w6: c150,-175 r75
  circle w10: c50,225 r60
  circle w6: c50,225 r75
  circle w10: c350,-175 r60
  circle w6: c350,-175 r75
  circle w10: c250,225 r60
  circle w6: c250,225 r75
  circle w10: c550,-175 r60
  circle w6: c550,-175 r75
  circle w10: c450,225 r60
  circle w6: c450,225 r75
  circle w10: c750,-175 r60
  circle w6: c750,-175 r75
  circle w10: c650,225 r60
  circle w6: c650,225 r75
  circle w10: c950,-175 r60
  circle w6: c950,-175 r75
  circle w10: c850,225 r60
  circle w6: c850,225 r75
  lines w24: -1187,189 -1114,262 ; -1087,-211 -1014,-138 ; -987,189 -914,262 ; -887,-211 -814,-138 ; -787,189 -714,262 ; -687,-211 -614,-138 ; -587,189 -514,262 ; -487,-211 -414,-138 ; -387,189 -314,262 ; -287,-211 -214,-138 ; -187,189 -114,262 ; -87,-211 -14,-138 ; 13,189 86,262 ; 113,-211 186,-138 ; 213,189 286,262 ; 313,-211 386,-138 ; 413,189 486,262 ; 513,-211 586,-138 ; 613,189 686,262 ; 713,-211 786,-138 ; 813,189 886,262 ; 913,-211 986,-138 ; 1013,189 1086,262 ; 1113,-211 1186,-138
  text "1" at -1000,-105 h62
  text "2" at -805,-105 h62
  text "13" at -1115,301 h62
  text "14" at -918.94,301 h62
  text "12" at 1195,-105 h62
  text "24" at 1082,301 h62
  text "3" at -605,-105 h62
  text "15" at -718.94,301 h62
  text "4" at -405,-105 h62
  text "16" at -518.94,301 h62
  text "5" at -205,-105 h62
  text "17" at -318.94,301 h62
  text "6" at -5,-105 h62
  text "18" at -118.94,301 h62
  text "7" at 195,-105 h62
  text "19" at 82,301 h62
  text "8" at 395,-105 h62
  text "20" at 282,301 h62
  text "9" at 595,-105 h62
  text "21" at 482,301 h62
  text "10" at 795,-105 h62
  text "22" at 682,301 h62
  text "11" at 995,-105 h62
  text "23" at 882,301 h62

## MSTB2 [mil]
Top Overlay:
  circle w10: c100,40 r70
  circle w10: c-100,40 r70
  lines w6: -200,205 -200,150 ; 200,205 200,150 ; -200,-140 -200,-180 200,-180 200,-140 ; -200,-140 200,-140 ; -200,-140 -200,150 ; -200,150 200,150 ; 200,-140 200,150
  lines w10: -145,-5 -55,85 ; 55,-5 145,85

## MSTB3 [mil]
Top Overlay:
  circle w10: c0,40 r70
  circle w10: c-200,40 r70
  circle w10: c200,40 r70
  lines w6: -300,205 -300,150 ; 300,205 300,150 ; -300,-140 -300,-180 300,-180 300,-140 ; -300,-140 300,-140 ; -300,-140 -300,150 ; -300,150 300,150 ; 300,-140 300,150
  lines w10: -245,-5 -155,85 ; -45,-5 45,85 ; 155,-5 245,85

## MSTBA2 [mil]
pads (2):
  oval 82.5x165 hole 55: 1(-100,200) 2(100,200)
Top Overlay:
  lines w6: -125,280 -240,280 -240,-75 ; -75,280 75,280 ; 125,280 240,280 240,-75 ; -240,-75 240,-75 ; -240,-75 -240,-195 -135,-195 ; -135,-195 -120,-145 -80,-145 -65,-195 ; -135,-195 -65,-195 ; -65,-195 65,-195 ; 65,-195 80,-145 120,-145 135,-195 ; 65,-195 135,-195 ; 135,-195 240,-195 240,-75
  text "1" at -180,175 h77.5
  text "2" at 10,175 h77.5
Courtyard Bottom:
  lines w6: -125,280 -75,280 ; 75,280 125,280

## MSTBA3 [mil]
pads (3):
  oval 82.5x165 hole 55: 1(-200,200) 2(0,200) 3(200,200)
Top Overlay:
  lines w6: -225,280 -340,280 -340,-75 ; -175,280 -25,280 ; 25,280 175,280 ; 225,280 340,280 340,-75 ; -340,-75 340,-75 ; -340,-75 -340,-195 -235,-195 ; -235,-195 -220,-145 -180,-145 -165,-195 ; -235,-195 -165,-195 ; -165,-195 -35,-195 ; -35,-195 -20,-145 20,-145 35,-195 ; -35,-195 35,-195 ; 35,-195 165,-195 ; 165,-195 235,-195 ; 165,-195 180,-145 220,-145 235,-195 ; 235,-195 340,-195 340,-75
  text "1" at -280,175 h77.5
  text "2" at -90,175 h77.5
  text "3" at 110,175 h77.5
Courtyard Bottom:
  lines w6: -225,280 -175,280 ; -25,280 25,280 ; 175,280 225,280

## MSTBA4 [mil]
pads (4):
  oval 82.5x165 hole 55: 1(-300,200) 2(-100,200) 3(100,200) 4(300,200)
Top Overlay:
  lines w6: -325,280 -440,280 -440,-75 ; -275,280 -125,280 ; -75,280 75,280 ; 125,280 275,280 ; 325,280 440,280 440,-75 ; -440,-75 440,-75 ; -440,-75 -440,-195 -335,-195 ; -335,-195 -320,-145 -280,-145 -265,-195 ; -335,-195 -265,-195 ; -265,-195 -135,-195 ; -135,-195 -120,-145 -80,-145 -65,-195 ; -135,-195 -65,-195 ; -65,-195 65,-195 ; 65,-195 135,-195 ; 65,-195 80,-145 120,-145 135,-195 ; 135,-195 265,-195 ; 265,-195 335,-195 ; 265,-195 280,-145 320,-145 335,-195 ; 335,-195 440,-195 440,-75
  text "1" at -380,175 h77.5
  text "2" at -190,175 h77.5
  text "3" at 10,175 h77.5
  text "4" at 210,175 h77.5
Courtyard Bottom:
  lines w6: -325,280 -275,280 ; -125,280 -75,280 ; 75,280 125,280 ; 275,280 325,280